# Altium footprint library Sangjian_Pcb.PcbLib: 434 footprints (part 2 of 28)
Each footprint in its own frame and in the unit in brackets; x right, y up, seen from the top. Pads: shape width x height; smd on the part's side, far side on the other; paste and mask are expansions set on the pad; w line width, h text height; cw(c..) or ccw(c..) is an arc to the next point about the centre after c.
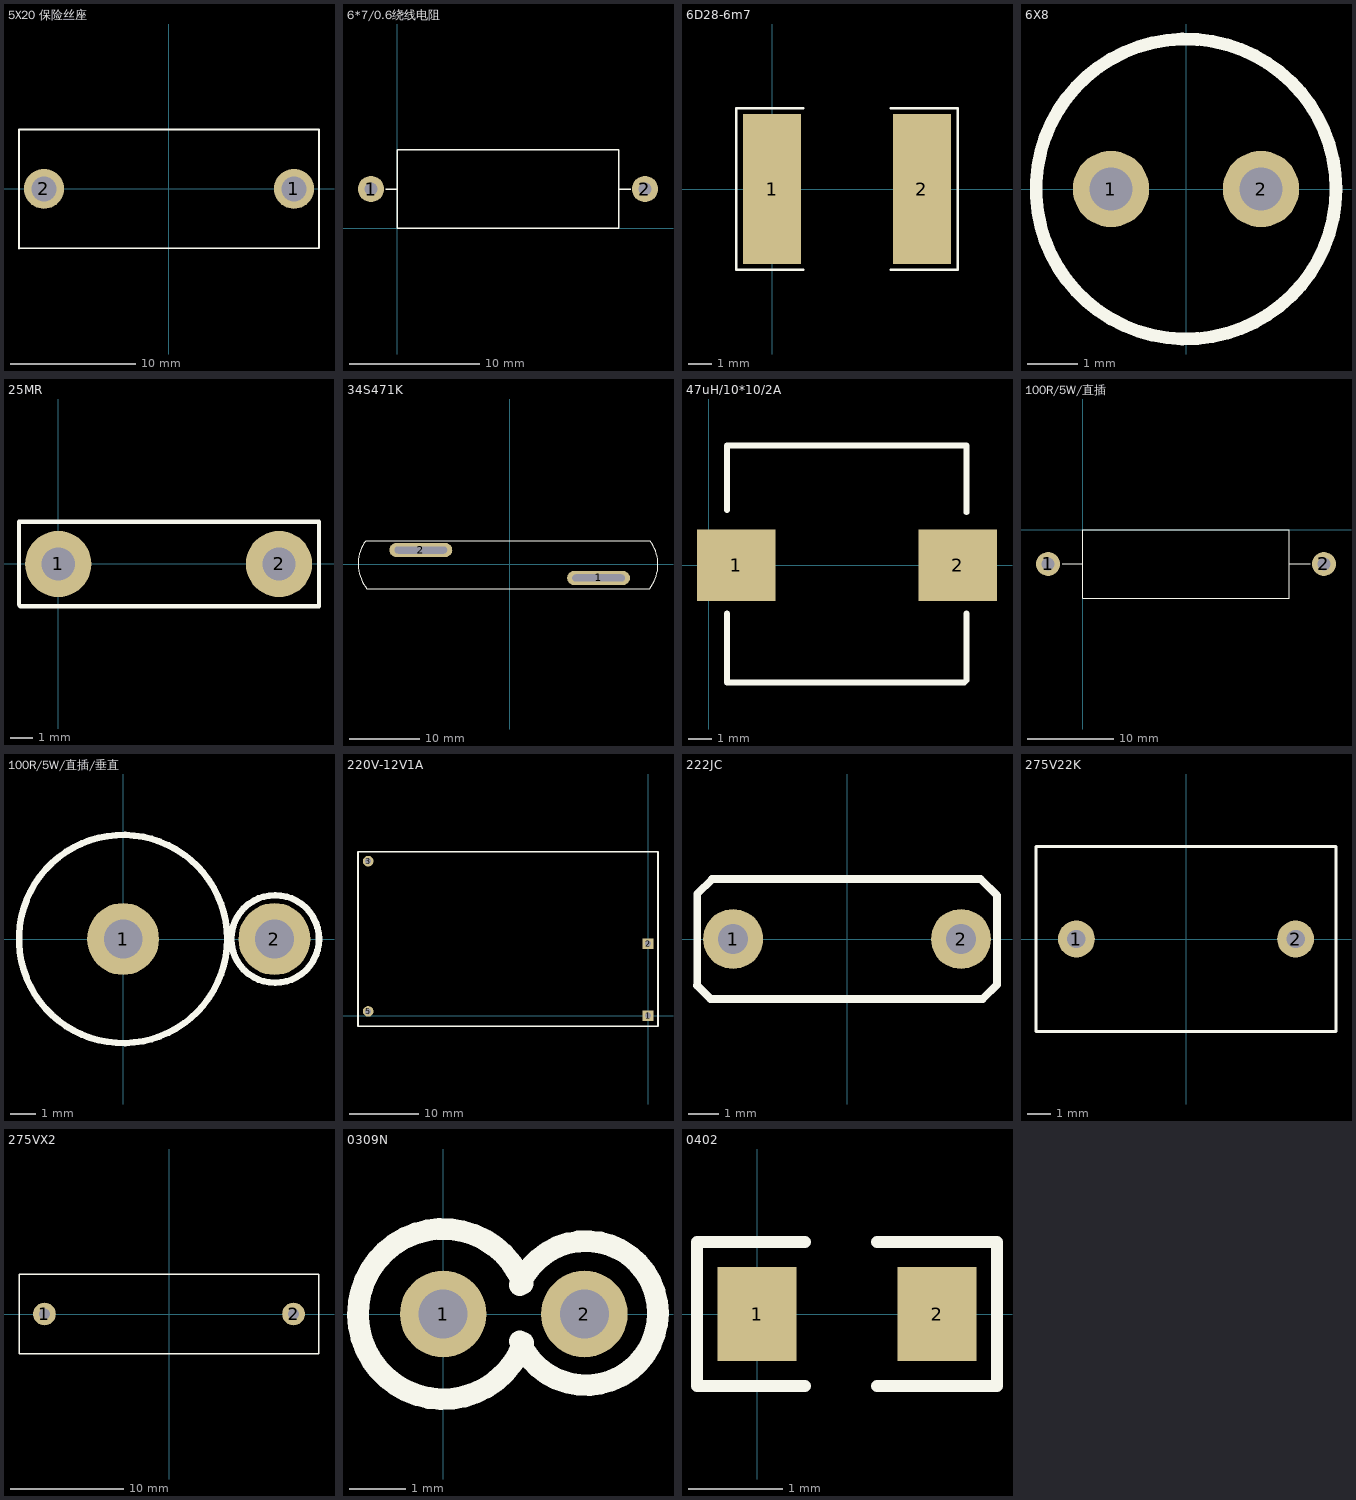
[diagram p1: the footprints below, top view; thin cyan lines are the x and y axes]

## 5X20 保险丝座 [mm]
pads (2):
  round 3.2 hole 2: 1(10,0) 2(-10,0)
Top Overlay:
  lines w0.127: -12,4.725 -12,-4.775 12,-4.75 12,4.75 -12,4.75

## 6*7/0.6绕线电阻 [mm]
pads (2):
  round 2 hole 1: 1(-2,3) 2(19,3)
Top Overlay:
  lines w0.1: -0.864,3 -0.023,3 ; 17.003,3 17.907,3 ; 0,0 17,0 17,6 0,6 0,0

## 6D28-6m7 [mm]
pads (2):
  rect 2.5x6.5 smd: 1(0,0) 2(6.5,0)
Top Overlay:
  lines w0.127: 1.337,-3.5 -1.55,-3.5 -1.55,3.5 1.337,3.5 ; 5.15,-3.5 8.05,-3.5 8.05,3.5 5.15,3.5

## 6X8 [mil]
pads (2):
  round 60 hole 34: 1(-59.06,0) 2(59.06,0)
Top Overlay:
  circle w10: c0,0 r118.11

## 25MR [mm]
pads (2):
  round 3 hole 1.5: 1(0,0) 2(10,0)
Top Overlay:
  lines w0.2: -1.778,-1.854 -1.727,-1.905 11.811,-1.905 11.811,1.905 -1.778,1.905 -1.778,-1.854

## 34S471K [mm]
pads (2):
  oval 9x2 hole 1 slot 7.5 at 0 deg: 1(12.7,-2) 2(-12.7,2)
Top Overlay:
  lines w0.127: -20.587,3.285 ccw(c-16.158,-0.002) -20.396,-3.531 ; -20.574,3.29 20.025,3.29 ; -20.345,-3.544 19.975,-3.544 ; 19.994,-3.508 ccw(c15.679,-0.073) 20.056,3.283

## 47uH/10*10/2A [mm]
pads (2):
  rect 3.4x3.1 smd: 1(1.194,0) 2(10.82,0)
Top Overlay:
  lines w0.254: 0.8,-2.1 0.8,-3 0.8,-5.1 11.1,-5.1 11.2,-5 11.2,-2.1 ; 0.8,2.4 0.8,5.2 11.2,5.2 11.2,2.3

## 100R/5W/直插 [mm]
pads (2):
  round 2.8 hole 1.5: 1(-4,-4) 2(28,-4)
Top Overlay:
  lines w0.1: -2.362,-4 0,-4 ; 24.054,-4 26.416,-4 ; 0,-8 24,-8 24,0 0,0 0,-8

## 100R/5W/直插/垂直 [mm] "垂直焊接"
pads (2):
  round 2.8 hole 1.5: 1(0,0) 2(5.893,0)
Top Overlay:
  circle w0.254: c0,0 r4.05
  circle w0.254: c5.918,0 r1.707

## 220V-12V1A [mil]
pads (4):
  rect 60x60 hole 34.02: 1(0,0) 2(0,405.51)
  round 60 hole 34.02: 3(-1579.53,871.65) 5(-1579.53,23.62)
Top Overlay:
  lines w10: -1636.83,-59.91 56.09,-59.91 56.09,924.34 -1636.83,924.34 -1636.83,-59.91

## 220V_To_5V_1A [mm]

## 222JC [mm]
pads (2):
  round 2 hole 1: 1(-3.8,0) 2(3.8,0)
Top Overlay:
  lines w0.254: -5.004,-1.549 -4.553,-2 -4.409,-2 -3.099,-2 4.521,-2 4.528,-2 5,-1.528 5,1.448 5,1.452 4.452,2 4.405,2 3.734,2 -2.896,2 -4.333,2 -4.502,2 -5,1.502 -5,-1.549

## 275V22K [mm]
pads (2):
  round 1.6 hole 0.8: 1(-4.75,0) 2(4.75,0)
Top Overlay:
  lines w0.127: -6.5,-4 6.5,-4 6.5,4 -6.5,4 -6.5,-4

## 275VX2 [mm]
pads (2):
  round 2 hole 1: 1(-11,0) 2(11,0)
Top Overlay:
  lines w0.127: -13.25,-3.5 13.25,-3.5 13.25,3.5 -13.25,3.5 -13.25,-3.5

## 0309N [mil]
pads (2):
  round 60 hole 34: 1(0,0) 2(98,0)
Top Overlay:
  lines w15: 53,-19 ccw(c99.01,0.58) 53,20.16 ; 55.2,20.99 ccw(c0,0) 55.59,-19.93

## 0402 [mm]
pads (2):
  rect 0.835x1 smd: 1(0,0) 2(1.905,0)
Top Overlay:
  lines w0.127: 0.508,-0.762 -0.635,-0.762 -0.635,0.762 0.508,0.762 ; 1.27,-0.762 2.54,-0.762 2.54,0.762 1.27,0.762